# Altium footprint library EIA.LGA.PcbLib: 3 footprints
Each footprint in its own frame and in the unit in brackets; x right, y up, seen from the top. Pads: shape width x height; smd on the part's side, far side on the other; paste and mask are expansions set on the pad; w line width, h text height; cw(c..) or ccw(c..) is an arc to the next point about the centre after c.
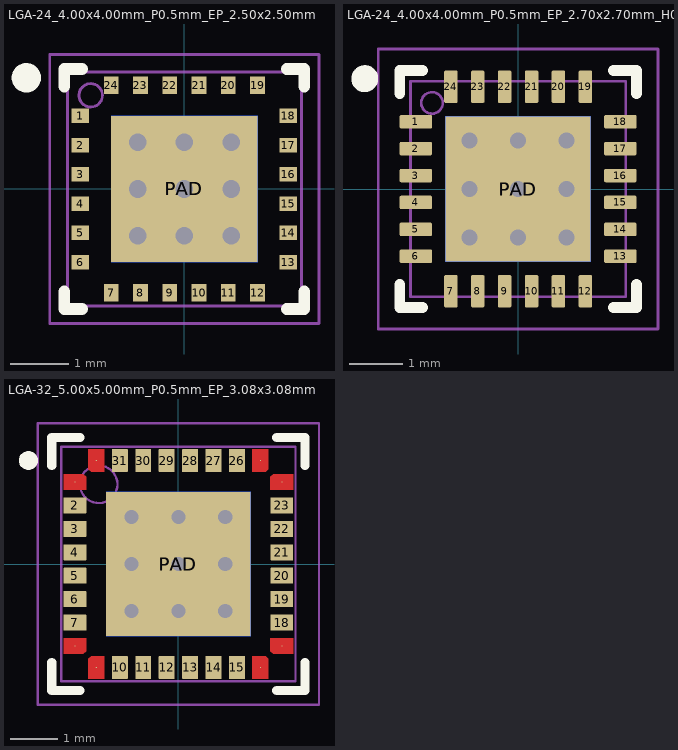
[diagram p0: the footprints below, top view; thin cyan lines are the x and y axes]

## LGA-24_4.00x4.00mm_P0.5mm_EP_2.50x2.50mm [mm] "LGA, 24-Leads, Body 4.00x4.00mm, Pitch 0.50mm, Thermal Pad 2.50x2.50mm, IPC Medium Density"
height 0.73
pads (26):
  rect 0.3x0.25 smd: 1(-1.775,1.25) 2(-1.775,0.75) 3(-1.775,0.25) 4(-1.775,-0.25) 5(-1.775,-0.75) 6(-1.775,-1.25) 13(1.775,-1.25) 14(1.775,-0.75) 15(1.775,-0.25) 16(1.775,0.25) 17(1.775,0.75) 18(1.775,1.25)
  rect 0.25x0.3 smd: 7(-1.25,-1.775) 8(-0.75,-1.775) 9(-0.25,-1.775) 10(0.25,-1.775) 11(0.75,-1.775) 12(1.25,-1.775) 19(1.25,1.775) 20(0.75,1.775) 21(0.25,1.775) 22(-0.25,1.775) 23(-0.75,1.775) 24(-1.25,1.775)
  rect 2.5x2.5 smd: PAD(0,0)
  rect 2.5x2.5 smd far side paste-2539.97: PAD(0,0)
via 0,0 diameter 0.6 hole 0.3
via -0.8,-0.8 diameter 0.6 hole 0.3
via -0.8,0 diameter 0.6 hole 0.3
via -0.8,0.8 diameter 0.6 hole 0.3
via 0,0.8 diameter 0.6 hole 0.3
via 0.8,0.8 diameter 0.6 hole 0.3
via 0.8,0 diameter 0.6 hole 0.3
via 0.8,-0.8 diameter 0.6 hole 0.3
via 0,-0.8 diameter 0.6 hole 0.3
Top Overlay:
  circle w0.25: c-2.7,1.9 r0.125
  lines w0.2: -2.05,-1.75 -2.05,-2.05 -1.75,-2.05 ; -2.05,1.75 -2.05,2.05 -1.75,2.05 ; 1.75,-2.05 2.05,-2.05 2.05,-1.75 ; 1.75,2.05 2.05,2.05 2.05,1.75
Mechanical 1:
  circle w0.05: c-1.6,1.6 r0.2
  lines w0.05: -2,-2 2,-2 2,2 -2,2 -2,-2
Mechanical 15:
  lines w0.05: -2.3,-2.3 -2.3,2.3 2.3,2.3 2.3,-2.3 -2.3,-2.3
  lines w0.1: -0.5,0 0.5,0 ; 0,-0.5 0,0.5
3D body "LGA-24_4.00x4.00mm_P0.5mm_EP_2.50x2.50mm.STEP": height 0.73, standoff 0, extent -2,-2 2,2

## LGA-24_4.00x4.00mm_P0.5mm_EP_2.70x2.70mm_H0.66mm [mm] "LGA, 24-Leads, Body 4.00x4.00mm, Pitch 0.50mm, Thermal Pad 2.70x2.70mm, IPC Medium Density"
height 0.66
pads (26):
  rrect20% 0.6x0.25 smd: 1(-1.9,1.25) 2(-1.9,0.75) 3(-1.9,0.25) 4(-1.9,-0.25) 5(-1.9,-0.75) 6(-1.9,-1.25) 13(1.9,-1.25) 14(1.9,-0.75) 15(1.9,-0.25) 16(1.9,0.25) 17(1.9,0.75) 18(1.9,1.25)
  rrect20% 0.25x0.6 smd: 7(-1.25,-1.9) 8(-0.75,-1.9) 9(-0.25,-1.9) 10(0.25,-1.9) 11(0.75,-1.9) 12(1.25,-1.9) 19(1.25,1.9) 20(0.75,1.9) 21(0.25,1.9) 22(-0.25,1.9) 23(-0.75,1.9) 24(-1.25,1.9)
  rect 2.7x2.7 smd far side paste-2539.97: PAD(0,0)
  rect 2.7x2.7 smd paste-2539.97: PAD(0,0)
via -0.9,-0.9 diameter 0.6 hole 0.3
via 0,-0.9 diameter 0.6 hole 0.3
via 0.9,-0.9 diameter 0.6 hole 0.3
via 0.9,0 diameter 0.6 hole 0.3
via 0.9,0.9 diameter 0.6 hole 0.3
via 0,0.9 diameter 0.6 hole 0.3
via -0.9,0.9 diameter 0.6 hole 0.3
via -0.9,0 diameter 0.6 hole 0.3
via 0,0 diameter 0.6 hole 0.3
Top Overlay:
  circle w0.25: c-2.85,2.05 r0.125
  lines w0.2: -2.2,-1.775 -2.2,-2.2 -1.775,-2.2 ; -2.2,1.775 -2.2,2.2 -1.775,2.2 ; 1.775,-2.2 2.2,-2.2 2.2,-1.775 ; 1.775,2.2 2.2,2.2 2.2,1.775
Mechanical 1:
  circle w0.05: c-1.6,1.6 r0.2
  lines w0.05: -2,-2 -2,2 2,2 2,-2 -2,-2
Mechanical 15:
  lines w0.05: -2.6,-2.6 -2.6,2.6 2.6,2.6 2.6,-2.6 -2.6,-2.6
  lines w0.1: -0.5,0 0.5,0 ; 0,-0.5 0,0.5
3D body "LGA-24_4.00x4.00mm_P0.5mm_EP_2.70x2.70mm_H0.66mm.STEP": height 0.7, standoff 0, extent -2,-2 2,2

## LGA-32_5.00x5.00mm_P0.5mm_EP_3.08x3.08mm [mm] "LGA, 32-Leads, Body 5.00x5.00mm, Pitch 0.50mm, Thermal Pad 3.08x3.08mm"
height 0.94
pads (34):
  round 0.025 smd: 1(-2.207,1.75) 8(-2.207,-1.75) 9(-1.75,-2.207) 16(1.75,-2.207) 17(2.207,-1.75) 24(2.207,1.75) 25(1.75,2.207) 32(-1.75,2.207)
  rrect5% 0.485x0.34 smd: 2(-2.207,1.25) 3(-2.207,0.75) 4(-2.207,0.25) 5(-2.207,-0.25) 6(-2.207,-0.75) 7(-2.207,-1.25) 18(2.207,-1.25) 19(2.207,-0.75) 20(2.207,-0.25) 21(2.207,0.25) 22(2.207,0.75) 23(2.207,1.25)
  rrect5% 0.34x0.485 smd: 10(-1.25,-2.207) 11(-0.75,-2.207) 12(-0.25,-2.207) 13(0.25,-2.207) 14(0.75,-2.207) 15(1.25,-2.207) 26(1.25,2.207) 27(0.75,2.207) 28(0.25,2.207) 29(-0.25,2.207) 30(-0.75,2.207) 31(-1.25,2.207)
  rect 3.08x3.08 smd: PAD(0,0)
  rect 3.08x3.08 smd far side: PAD(0,0)
via -1,-1 diameter 0.6 hole 0.3
via 0,-1 diameter 0.6 hole 0.3
via 1,-1 diameter 0.6 hole 0.3
via 1,0 diameter 0.6 hole 0.3
via 1,1 diameter 0.6 hole 0.3
via 0,1 diameter 0.6 hole 0.3
via -1,1 diameter 0.6 hole 0.3
via -1,0 diameter 0.6 hole 0.3
via 0,0 diameter 0.6 hole 0.3
Top Layer:
  region: 1.965,1.588 1.965,1.859 2.026,1.92 2.442,1.92 2.443,1.92 2.446,1.919 2.449,1.916 2.45,1.913 2.45,1.911 2.45,1.588 2.45,1.587 2.449,1.584 2.446,1.581 2.443,1.58 2.442,1.58 1.973,1.58 1.972,1.58 1.969,1.581 1.966,1.584 1.965,1.587
  region: 1.965,-1.859 1.965,-1.588 1.965,-1.587 1.966,-1.584 1.969,-1.581 1.972,-1.58 1.973,-1.58 2.442,-1.58 2.443,-1.58 2.446,-1.581 2.449,-1.584 2.45,-1.587 2.45,-1.588 2.45,-1.911 2.45,-1.913 2.449,-1.916 2.446,-1.919 2.443,-1.92 2.442,-1.92 2.026,-1.92
  region: 1.911,-2.45 1.588,-2.45 1.587,-2.45 1.584,-2.449 1.581,-2.446 1.58,-2.443 1.58,-2.442 1.58,-1.973 1.58,-1.972 1.581,-1.969 1.584,-1.966 1.587,-1.965 1.588,-1.965 1.859,-1.965 1.92,-2.026 1.92,-2.442 1.92,-2.443 1.919,-2.446 1.916,-2.449 1.913,-2.45
  region: -1.588,-2.45 -1.911,-2.45 -1.913,-2.45 -1.916,-2.449 -1.919,-2.446 -1.92,-2.443 -1.92,-2.442 -1.92,-2.026 -1.859,-1.965 -1.588,-1.965 -1.587,-1.965 -1.584,-1.966 -1.581,-1.969 -1.58,-1.972 -1.58,-1.973 -1.58,-2.442 -1.58,-2.443 -1.581,-2.446 -1.584,-2.449 -1.587,-2.45
  region: -2.45,-1.911 -2.45,-1.588 -2.45,-1.587 -2.449,-1.584 -2.446,-1.581 -2.443,-1.58 -2.442,-1.58 -1.973,-1.58 -1.972,-1.58 -1.969,-1.581 -1.966,-1.584 -1.965,-1.587 -1.965,-1.588 -1.965,-1.859 -2.026,-1.92 -2.442,-1.92 -2.443,-1.92 -2.446,-1.919 -2.449,-1.916 -2.45,-1.913
  region: 1.859,1.965 1.588,1.965 1.587,1.965 1.584,1.966 1.581,1.969 1.58,1.972 1.58,1.973 1.58,2.442 1.58,2.443 1.581,2.446 1.584,2.449 1.587,2.45 1.588,2.45 1.911,2.45 1.913,2.45 1.916,2.449 1.919,2.446 1.92,2.443 1.92,2.442 1.92,2.026
  region: -1.588,1.965 -1.859,1.965 -1.92,2.026 -1.92,2.442 -1.92,2.443 -1.919,2.446 -1.916,2.449 -1.913,2.45 -1.911,2.45 -1.588,2.45 -1.587,2.45 -1.584,2.449 -1.581,2.446 -1.58,2.443 -1.58,2.442 -1.58,1.973 -1.58,1.972 -1.581,1.969 -1.584,1.966 -1.587,1.965
  region: -2.45,1.588 -2.45,1.911 -2.45,1.913 -2.449,1.916 -2.446,1.919 -2.443,1.92 -2.442,1.92 -2.026,1.92 -1.965,1.859 -1.965,1.588 -1.965,1.587 -1.966,1.584 -1.969,1.581 -1.972,1.58 -1.973,1.58 -2.442,1.58 -2.443,1.58 -2.446,1.581 -2.449,1.584 -2.45,1.587
Top Overlay:
  region: -3.2,2.007 -3.24,2.007 -3.313,2.038 -3.37,2.094 -3.4,2.168 -3.4,2.207 -3.4,2.247 -3.37,2.321 -3.313,2.377 -3.24,2.407 -3.2,2.407 -3.16,2.407 -3.087,2.377 -3.03,2.321 -3,2.247 -3,2.207 -3,2.168 -3.03,2.094 -3.087,2.038 -3.16,2.007
  lines w0.2: -2.7,-2.1 -2.7,-2.7 -2.1,-2.7 ; -2.7,2.1 -2.7,2.7 -2.1,2.7 ; 2.1,-2.7 2.7,-2.7 2.7,-2.1 ; 2.1,2.7 2.7,2.7 2.7,2.1
Mechanical 1:
  circle w0.05: c-1.7,1.7 r0.4
  lines w0.05: -2.5,-2.5 2.5,-2.5 2.5,2.5 -2.5,2.5 -2.5,-2.5
Mechanical 15:
  lines w0.05: -3,-3 -3,3 3,3 3,-3 -3,-3
  lines w0.1: -0.5,0 0.5,0 ; 0,-0.5 0,0.5
3D body "LGA-32_5.0x5.0mm_P0.5mm_EP3.03x3.03mm.STEP": height 0.94, standoff 0, extent -2.5,-2.5 2.5,2.5